# Altium schematic symbol library Connectors.SchLib: 121 symbols
Pins are listed as number, name and electrical type; pins without a type are passive.

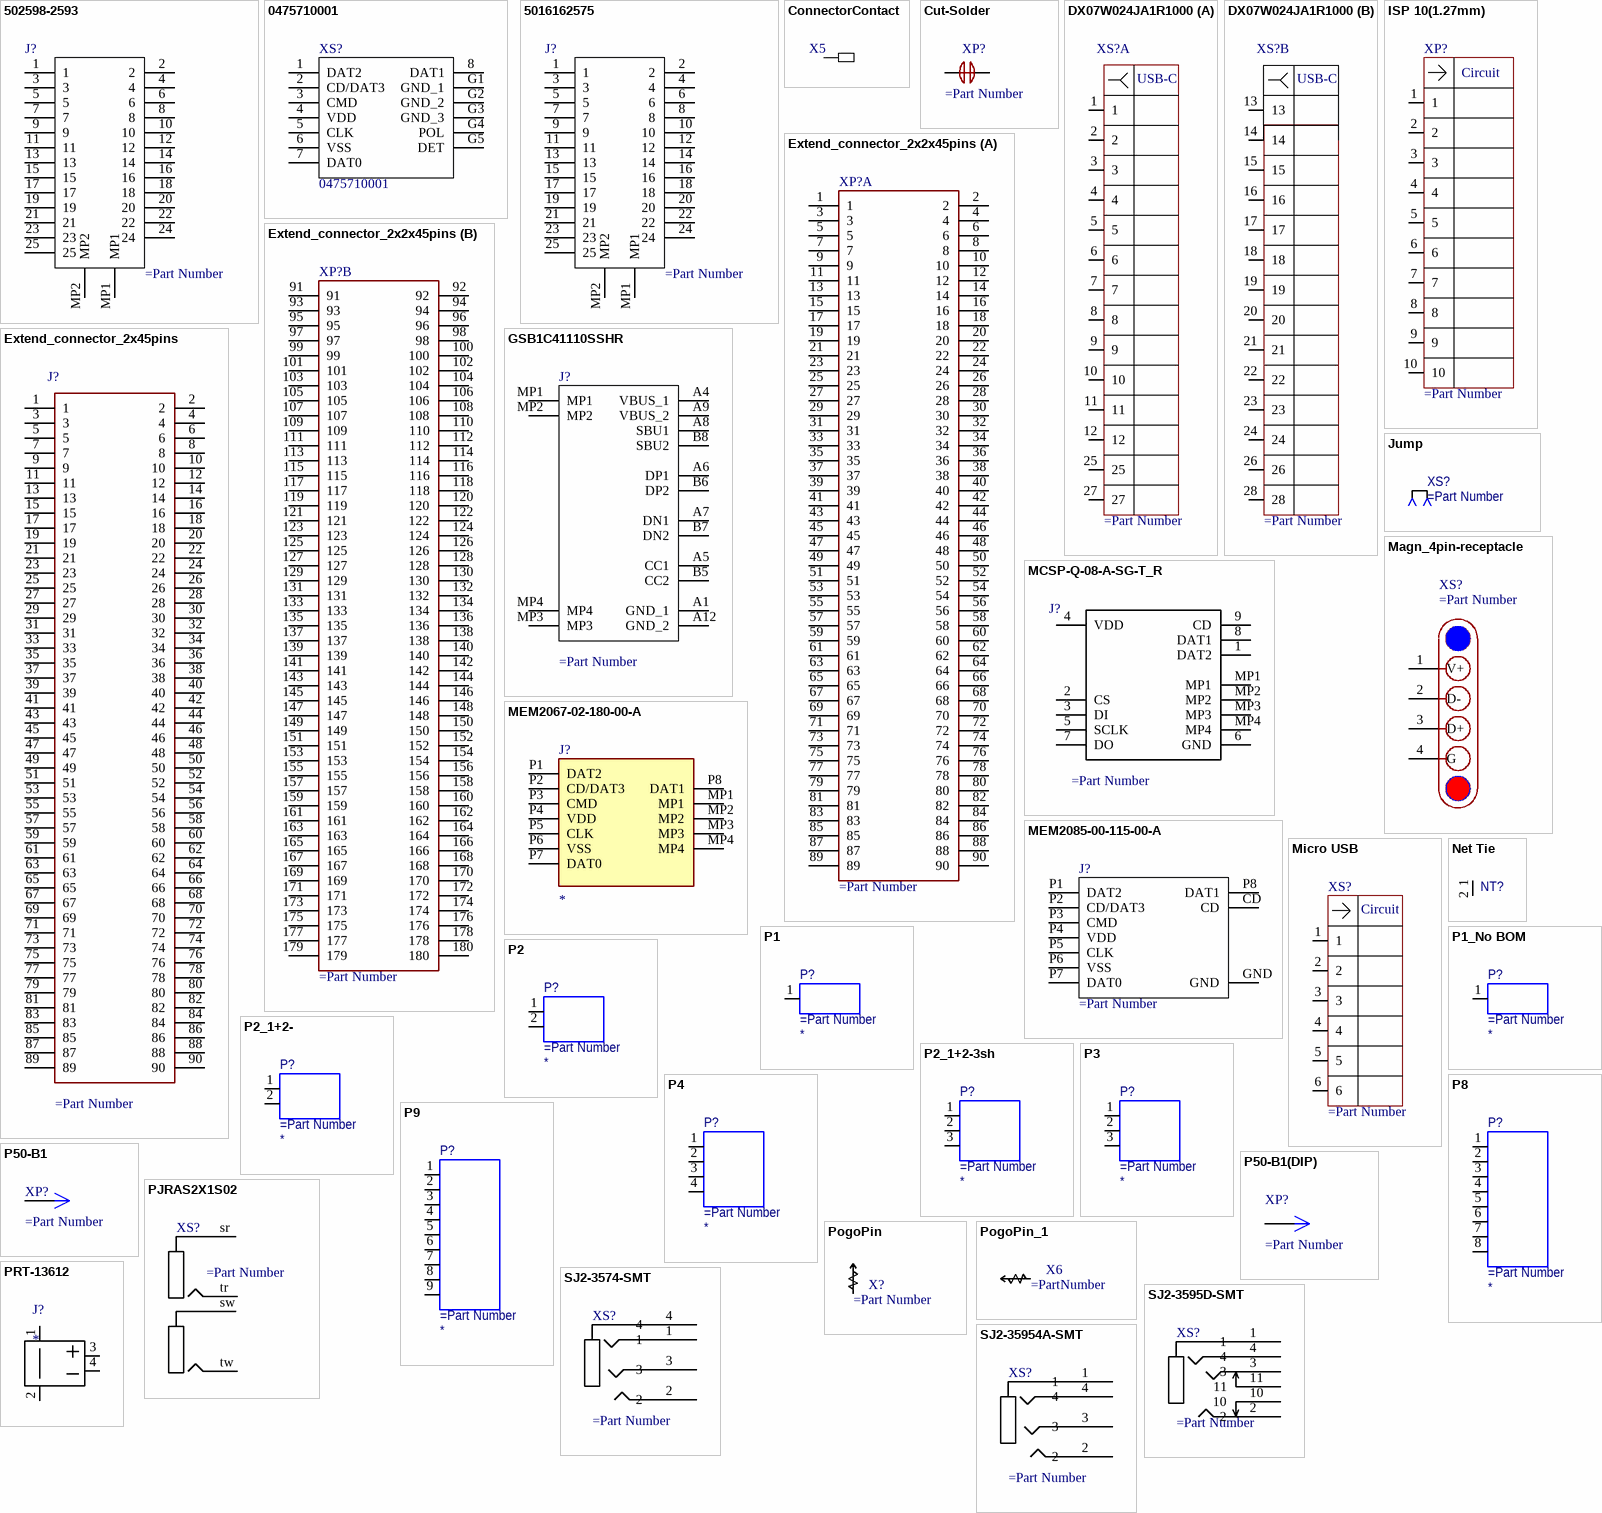
[diagram p0: symbols 502598-2593 to SJ2-35954A-SMT]

## 502598-2593
designator J?
pins: 1, 2, 3, 4, 5, 6, 7, 8, 9, 10, 11, 12, 13, 14, 15, 16, 17, 18, 19, 20, 21, 22, 23, 24, 25, MP1, MP2

## 0475710001
designator XS?
Connector; Manufacturer_Name: Molex; Datasheet Link: https://www.molex.com/pdm_docs/sd/475710001_sd.pdf; Height: 2.3mm; Manufacturer_Part_Number: 0475710001; Mouser Part Number: N/A; Mouser Price/Stock: https://www.mouser.co.uk/ProductDetail/Molex/0475710001?qs=%252BdQmOuGyFcHHu16Mv9OzIA%3D%3D; Arrow Part Number: 0475710001; Arrow Price/Stock: https://www.arrow.com/en/products/0475710001/molex?region=nac
footprint 0475710001
pins: 1 DAT2, 2 CD/DAT3, 3 CMD, 4 VDD, 5 CLK, 6 VSS, 7 DAT0, 8 DAT1, G1 GND_1, G2 GND_2, G3 GND_3, G4 POL, G5 DET

## 5016162575
designator J?
pins: 1, 2, 3, 4, 5, 6, 7, 8, 9, 10, 11, 12, 13, 14, 15, 16, 17, 18, 19, 20, 21, 22, 23, 24, 25, MP1, MP2

## ConnectorContact
designator X5, comment 5024380000  (value not drawn)  (mechanical)
Non-Gendered Contact Tin 22-26 AWG Crimp Stamped; Part Number: 5024380000; HelpURL: https://www.digikey.com/product-detail/en/molex/5024380000/WM3978CT-ND/2421937; Digi-Key Part Number: WM3978CT-ND; Price$: 0.02054; Manufacturer Part Number: 5024380000

## Cut-Solder
designator XP?
pins: 1, 2

## DX07W024JA1R1000
designator XS?
part A pins: 1, 2, 3, 4, 5, 6, 7, 8, 9, 10, 11, 12, 25, 27
part B pins: 13, 14, 15, 16, 17, 18, 19, 20, 21, 22, 23, 24, 26, 28
part A text: USB-C
part B text: USB-C

## Extend_connector_2x2x45pins
designator XP?
part A pins: 1, 2, 3, 4, 5, 6, 7, 8, 9, 10, 11, 12, 13, 14, 15, 16, 17, 18, 19, 20, 21, 22, 23, 24, 25, 26, 27, 28, 29, 30, 31, 32, 33, 34, 35, 36, 37, 38, 39, 40, 41, 42, 43, 44, 45, 46, 47, 48, 49, 50, 51, 52, 53, 54, 55, 56, 57, 58, 59, 60, 61, 62, 63, 64, 65, 66, 67, 68, 69, 70, 71, 72, 73, 74, 75, 76, 77, 78, 79, 80, 81, 82, 83, 84, 85, 86, 87, 88, 89, 90
part B pins: 91, 92, 93, 94, 95, 96, 97, 98, 99, 100, 101, 102, 103, 104, 105, 106, 107, 108, 109, 110, 111, 112, 113, 114, 115, 116, 117, 118, 119, 120, 121, 122, 123, 124, 125, 126, 127, 128, 129, 130, 131, 132, 133, 134, 135, 136, 137, 138, 139, 140, 141, 142, 143, 144, 145, 146, 147, 148, 149, 150, 151, 152, 153, 154, 155, 156, 157, 158, 159, 160, 161, 162, 163, 164, 165, 166, 167, 168, 169, 170, 171, 172, 173, 174, 175, 176, 177, 178, 179, 180

## Extend_connector_2x45pins
designator J?
Connector; Manufacturer_Name: SAMTEC; Manufacturer_Part_Number: SSW-145-01-T-D; Datasheet Link: http://suddendocs.samtec.com/prints/ssw-1xx-xx-xxx-x-xx-xxx-xx-mkt.pdf
footprint SAMTEC_SSW-145-01-T-D
pins: 1, 2, 3, 4, 5, 6, 7, 8, 9, 10, 11, 12, 13, 14, 15, 16, 17, 18, 19, 20, 21, 22, 23, 24, 25, 26, 27, 28, 29, 30, 31, 32, 33, 34, 35, 36, 37, 38, 39, 40, 41, 42, 43, 44, 45, 46, 47, 48, 49, 50, 51, 52, 53, 54, 55, 56, 57, 58, 59, 60, 61, 62, 63, 64, 65, 66, 67, 68, 69, 70, 71, 72, 73, 74, 75, 76, 77, 78, 79, 80, 81, 82, 83, 84, 85, 86, 87, 88, 89, 90

## GSB1C41110SSHR
designator J?
Connector; Manufacturer_Name: Amphenol Communications Solutions; Manufacturer_Part_Number: GSB1C41110SSHR; Datasheet Link: https://cdn.amphenol-cs.com/media/wysiwyg/files/drawing/gsb1c41x10sshr-ax1.pdf; Height: 3.41mm
footprint GSB1C41110SSHR
pins: A1 GND_1, A4 VBUS_1, A5 CC1, A6 DP1, A7 DN1, A8 SBU1, A9 VBUS_2, A12 GND_2, B5 CC2, B6 DP2, B7 DN2, B8 SBU2, MP1, MP2, MP3, MP4

## ISP 10(1.27mm)
designator XP?
pins: 1, 2, 3, 4, 5, 6, 7, 8, 9, 10
text: Circuit

## Jump
designator XS?  (mechanical)

## Magn_4pin-receptacle
designator XS?
pins: 1 V+, 2 D-, 3 D+, 4 G

## MCSP-Q-08-A-SG-T_R
designator J?
Connector; Manufacturer_Name: Adam Tech; Manufacturer_Part_Number: MCSP-Q-08-A-SG-T/R; Datasheet Link: https://www.tme.eu/Document/5f9a5d03c5c83aa9fa1dbd4994c7ccab/MCSP-Q-08-A-SG-DTE.pdf; Height: 2mm
footprint MCSPQ08ASGTR
pins: 1 DAT2, 2 CS, 3 DI, 4 VDD, 5 SCLK, 6 GND, 7 DO, 8 DAT1, 9 CD, MP1, MP2, MP3, MP4

## MEM2067-02-180-00-A
designator J?
Connector; Manufacturer_Name: GCT (GLOBAL CONNECTOR TECHNOLOGY); Manufacturer_Part_Number: MEM2067-02-180-00-A; Datasheet Link: https://gct.co/files/drawings/mem2067.pdf; Height: 1.95mm; Mouser Part Number: 640-MEM20670218000A; Mouser Price/Stock: https://www.mouser.co.uk/ProductDetail/GCT/MEM2067-02-180-00-A?qs=KUoIvG%2F9IlYTw%2Fcc1GlNJA%3D%3D
footprint MEM20670218000A
pins: MP1, MP2, MP3, MP4, P1 DAT2, P2 CD/DAT3, P3 CMD, P4 VDD, P5 CLK, P6 VSS, P7 DAT0, P8 DAT1

## MEM2085-00-115-00-A
designator J?
Connector; Manufacturer_Name: GCT (GLOBAL CONNECTOR TECHNOLOGY); Manufacturer_Part_Number: MEM2085-00-115-00-A; Datasheet Link: https://gct.co/files/drawings/mem2085.pdf; Height: 1.35mm; Mouser Part Number: 640-MEM20850011500A; Mouser Price/Stock: https://www.mouser.co.uk/ProductDetail/GCT/MEM2085-00-115-00-A?qs=rQFj71Wb1eWNkFUhuuvVIA%3D%3D
footprint MEM20850011500A
pins: CD, GND, P1 DAT2, P2 CD/DAT3, P3 CMD, P4 VDD, P5 CLK, P6 VSS, P7 DAT0, P8 DAT1

## Micro USB
designator XS?
pins: 1, 2, 3, 4, 5, 6
text: Circuit

## Net Tie
designator NT?  (value not drawn)  (net tie, no BOM)
pins: 1, 2

## P1
designator P?
Silk: *
pins: 1

## P1_No BOM
designator P?  (no BOM)
Silk: *
pins: 1

## P2
designator P?
Silk: *
pins: 1, 2

## P2_1+2-
designator P?
Silk: *
pins: 1, 2

## P2_1+2-3sh
designator P?
Silk: *
pins: 1, 2, 3

## P3
designator P?
Silk: *
pins: 1, 2, 3

## P4
designator P?
Silk: *
pins: 1, 2, 3, 4

## P8
designator P?
Silk: *
pins: 1, 2, 3, 4, 5, 6, 7, 8

## P9
designator P?
Silk: *
pins: 1, 2, 3, 4, 5, 6, 7, 8, 9

## P50-B1
designator XP?
pins: 1

## P50-B1(DIP)
designator XP?
pins: 1

## PJRAS2X1S02
designator XS?
pins: sr, sw, tr, tw

## PogoPin
designator X?
pins: 1

## PogoPin_1
designator X6
CONTACT SPRING LOADED SMD GOLD; Part Number: 0919-0-15-20-89-14-11-0; HelpURL: https://www.digikey.com/en/products/detail/mill-max-manufacturing-corp/0919-0-15-20-89-14-11-0/6193088; Price$: 0.45040; Manufacturer Part Number: 0919-0-15-20-89-14-11-0; Digi-Key Part Number: ED10766-ND
footprint 0919-0-15-20-89-14-11-0
pins: 1

## PRT-13612
designator J?
Connector; Manufacturer_Name: SparkFun; Manufacturer_Part_Number: PRT-13612; Datasheet Link: https://cdn.sparkfun.com/datasheets/Prototyping/PCC-SMP-K-datasheet.pdf; Height: 6.3mm; Arrow Part Number: PRT-13612; Arrow Price/Stock: https://www.arrow.com/en/products/prt-13612/sparkfun-electronics; Mouser Part Number: 474-PRT-13612; Mouser Price/Stock: https://www.mouser.co.uk/ProductDetail/SparkFun/PRT-13612?qs=WyAARYrbSnbvS1kDzRVYBg%3D%3D
footprint PRT13612
pins: 1, 2, 3 +, 4 -

## SJ2-3574-SMT
designator XS?
pins: 1, 2, 3, 4

## SJ2-3595D-SMT
designator XS?
pins: 1, 2, 3, 4, 10, 11

## SJ2-35954A-SMT
designator XS?
pins: 1, 2, 3, 4

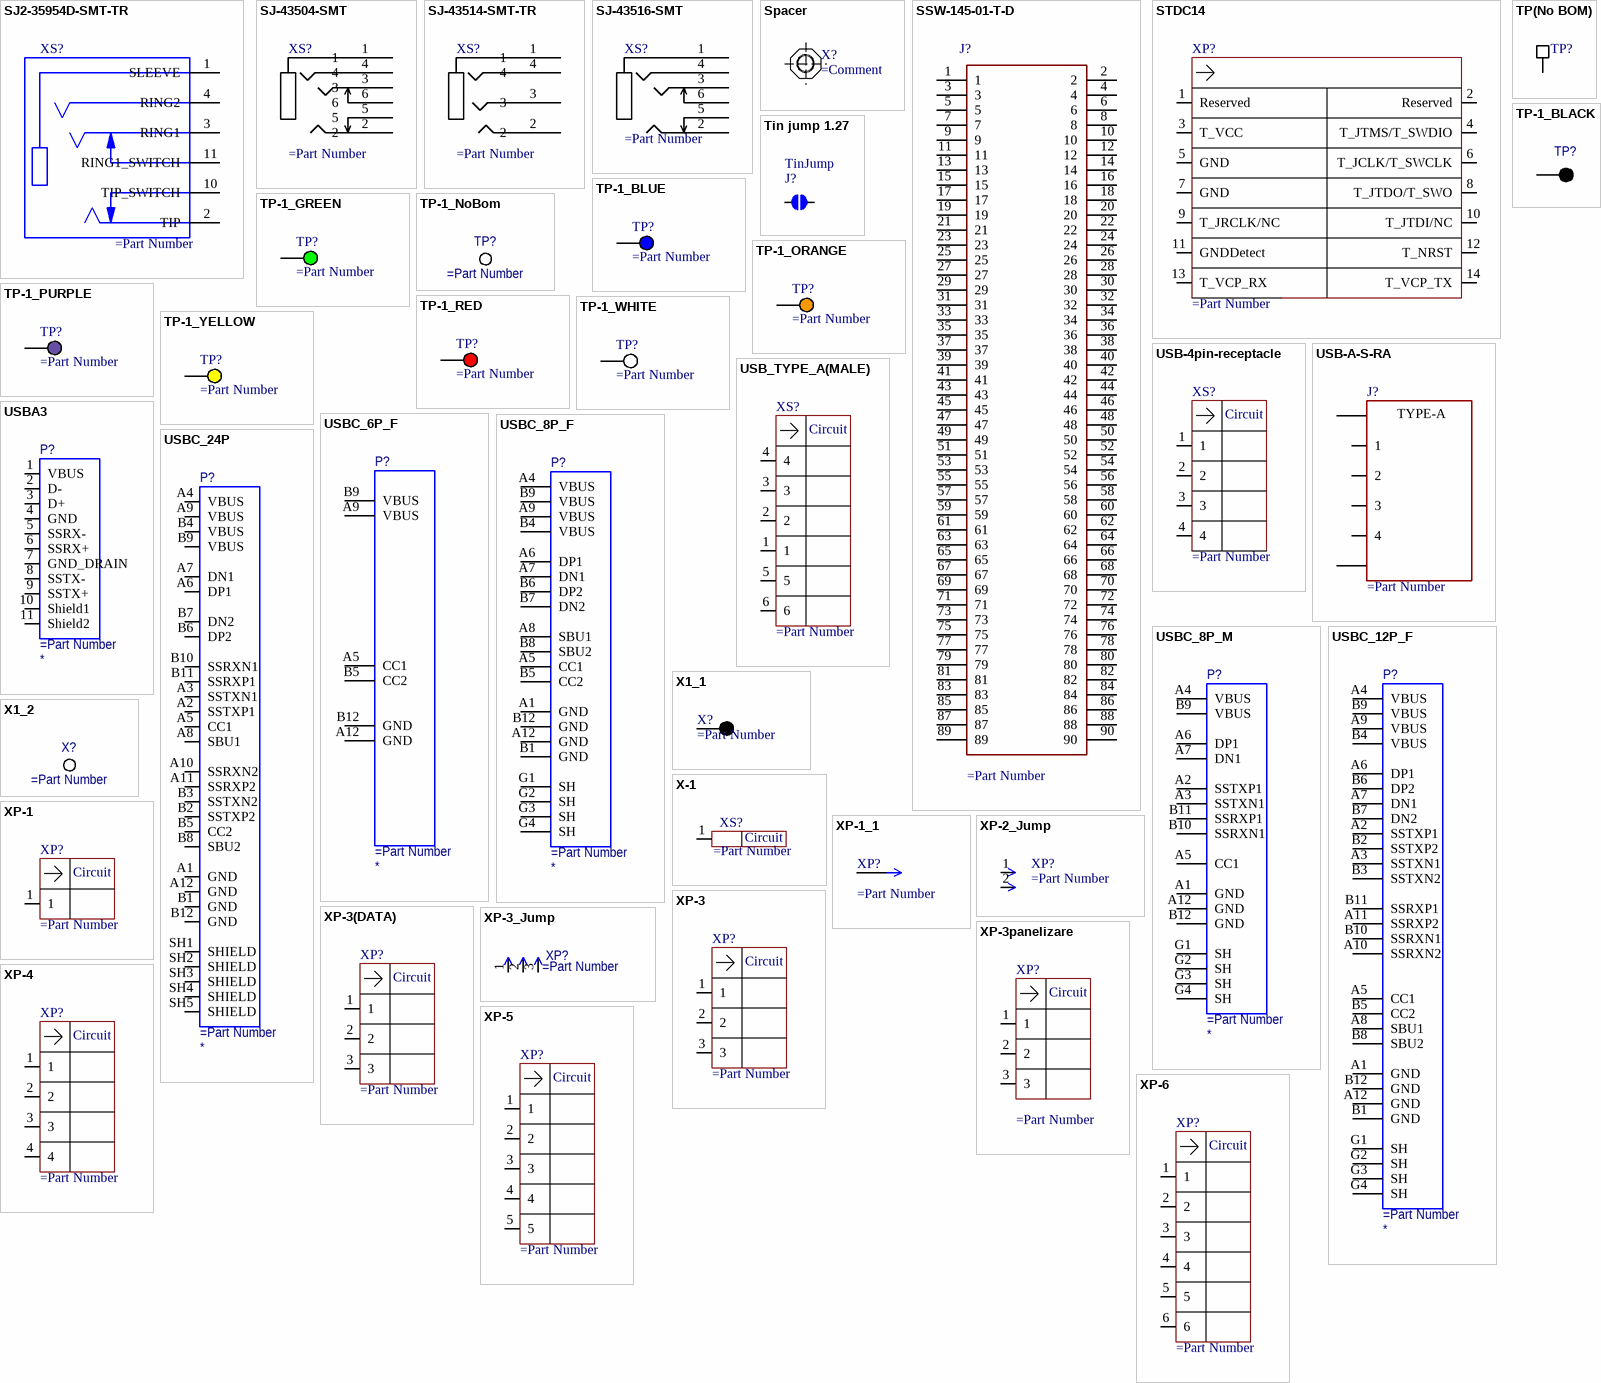
[diagram p1: symbols SJ2-35954D-SMT-TR to XP-6]

## SJ2-35954D-SMT-TR
designator XS?
3.5 mm, Stereo, Right Angle, Surface Mount _SMT_, Audio Jack Connector; MF: CUI Devices; MP: SJ2-35954D-SMT-TR; CUI_purchase_URL: https://www.cuidevices.com/product/interconnect/connectors/audio-connectors/jacks/sj2-3595x-smt-series?utm_source=snapeda.com&utm_medium=referral&utm_campaign=snapedaBOM; Value: *; Price: None; Package: None; Availability: Unavailable; SnapEDA_Link: https://www.snapeda.com/parts/SJ2-35954D-SMT-TR/CUI%20Devices/view-part/910428/?ref=snap
footprint CUI_SJ2-35954D-SMT-TR
pins: 1 SLEEVE, 2 TIP, 3 RING1, 4 RING2, 10 TIP_SWITCH, 11 RING1_SWITCH

## SJ-43504-SMT
designator XS?
pins: 1, 2, 3, 4, 5, 6

## SJ-43514-SMT-TR
designator XS?
pins: 1, 2, 3, 4

## SJ-43516-SMT
designator XS?
pins: 1, 2, 3, 4, 5, 6

## Spacer
designator X?

## SSW-145-01-T-D
designator J?
Connector; Manufacturer_Name: SAMTEC; Manufacturer_Part_Number: SSW-145-01-T-D; Datasheet Link: http://suddendocs.samtec.com/prints/ssw-1xx-xx-xxx-x-xx-xxx-xx-mkt.pdf
footprint SAMTEC_SSW-145-01-T-D
pins: 1, 2, 3, 4, 5, 6, 7, 8, 9, 10, 11, 12, 13, 14, 15, 16, 17, 18, 19, 20, 21, 22, 23, 24, 25, 26, 27, 28, 29, 30, 31, 32, 33, 34, 35, 36, 37, 38, 39, 40, 41, 42, 43, 44, 45, 46, 47, 48, 49, 50, 51, 52, 53, 54, 55, 56, 57, 58, 59, 60, 61, 62, 63, 64, 65, 66, 67, 68, 69, 70, 71, 72, 73, 74, 75, 76, 77, 78, 79, 80, 81, 82, 83, 84, 85, 86, 87, 88, 89, 90

## STDC14
designator XP?
pins: 1 Reserved, 2 Reserved, 3 T_VCC, 4 T_JTMS/T_SWDIO, 5 GND, 6 T_JCLK/T_SWCLK, 7 GND, 8 T_JTDO/T_SWO, 9 T_JRCLK/NC, 10 T_JTDI/NC, 11 GNDDetect, 12 T_NRST, 13 T_VCP_RX, 14 T_VCP_TX

## Tin jump 1.27
designator J?, comment TinJump
pins: 1, 2

## TP(No BOM)
designator TP?  (value not drawn)  (no BOM)
pins: 1

## TP-1_BLACK
designator TP?
pins: 1

## TP-1_BLUE
designator TP?
pins: 1

## TP-1_GREEN
designator TP?
pins: 1

## TP-1_NoBom
designator TP?
pins: 1

## TP-1_ORANGE
designator TP?
pins: 1

## TP-1_PURPLE
designator TP?
pins: 1

## TP-1_RED
designator TP?
pins: 1

## TP-1_WHITE
designator TP?
pins: 1

## TP-1_YELLOW
designator TP?
pins: 1

## USB-4pin-receptacle
designator XS?
pins: 1, 2, 3, 4
text: Circuit

## USB-A-S-RA
designator J?
pins: 1, 2, 3, 4, 5, 6
text: TYPE-A

## USB_TYPE_A(MALE)
designator XS?
pins: 1, 2, 3, 4, 5, 6
text: Circuit

## USBA3
designator P?
Silk: *
pins: 1 VBUS, 2 D-, 3 D+, 4 GND, 5 SSRX-, 6 SSRX+, 7 GND_DRAIN, 8 SSTX-, 9 SSTX+, 10 Shield1, 11 Shield2

## USBC_6P_F
designator P?
Silk: *
pins: A5 CC1, A9 VBUS, A12 GND, B5 CC2, B9 VBUS, B12 GND

## USBC_8P_F
designator P?
Silk: *
pins: A1 GND, A4 VBUS, A5 CC1, A6 DP1, A7 DN1, A8 SBU1, A9 VBUS, A12 GND, B1 GND, B4 VBUS, B5 CC2, B6 DP2, B7 DN2, B8 SBU2, B9 VBUS, B12 GND, G1 SH, G2 SH, G3 SH, G4 SH

## USBC_8P_M
designator P?
Silk: *
pins: A1 GND, A2 SSTXP1, A3 SSTXN1, A4 VBUS, A5 CC1, A6 DP1, A7 DN1, A12 GND, B9 VBUS, B10 SSRXN1, B11 SSRXP1, B12 GND, G1 SH, G2 SH, G3 SH, G4 SH

## USBC_12P_F
designator P?
Silk: *
pins: A1 GND, A2 SSTXP1, A3 SSTXN1, A4 VBUS, A5 CC1, A6 DP1, A7 DN1, A8 SBU1, A9 VBUS, A10 SSRXN2, A11 SSRXP2, A12 GND, B1 GND, B2 SSTXP2, B3 SSTXN2, B4 VBUS, B5 CC2, B6 DP2, B7 DN2, B8 SBU2, B9 VBUS, B10 SSRXN1, B11 SSRXP1, B12 GND, G1 SH, G2 SH, G3 SH, G4 SH

## USBC_24P
designator P?
Silk: *
pins: A1 GND, A2 SSTXP1, A3 SSTXN1, A4 VBUS, A5 CC1, A6 DP1, A7 DN1, A8 SBU1, A9 VBUS, A10 SSRXN2, A11 SSRXP2, A12 GND, B1 GND, B2 SSTXP2, B3 SSTXN2, B4 VBUS, B5 CC2, B6 DP2, B7 DN2, B8 SBU2, B9 VBUS, B10 SSRXN1, B11 SSRXP1, B12 GND, SH1 SHIELD, SH2 SHIELD, SH3 SHIELD, SH4 SHIELD, SH5 SHIELD

## X1_1
designator X?
pins: 1

## X1_2
designator X?
pins: 1

## X-1
designator XS?
pins: 1
text: Circuit

## XP-1
designator XP?
pins: 1
text: Circuit

## XP-1_1
designator XP?
Вилка на плату
pins: 1

## XP-2_Jump
designator XP?
pins: 1, 2

## XP-3
designator XP?
footprint 440055-3
pins: 1, 2, 3
text: Circuit

## XP-3(DATA)
designator XP?
footprint B03B-XASK-1 (CONN HEADER XA 3POS 2.5MM TIN)
pins: 1, 2, 3
text: Circuit

## XP-3_Jump
designator XP?
pins: 1, 2, 3

## XP-3panelizare
designator XP?
pins: 1, 2, 3
text: Circuit

## XP-4
designator XP?
pins: 1, 2, 3, 4
text: Circuit

## XP-5
designator XP?
pins: 1, 2, 3, 4, 5
text: Circuit

## XP-6
designator XP?
pins: 1, 2, 3, 4, 5, 6
text: Circuit

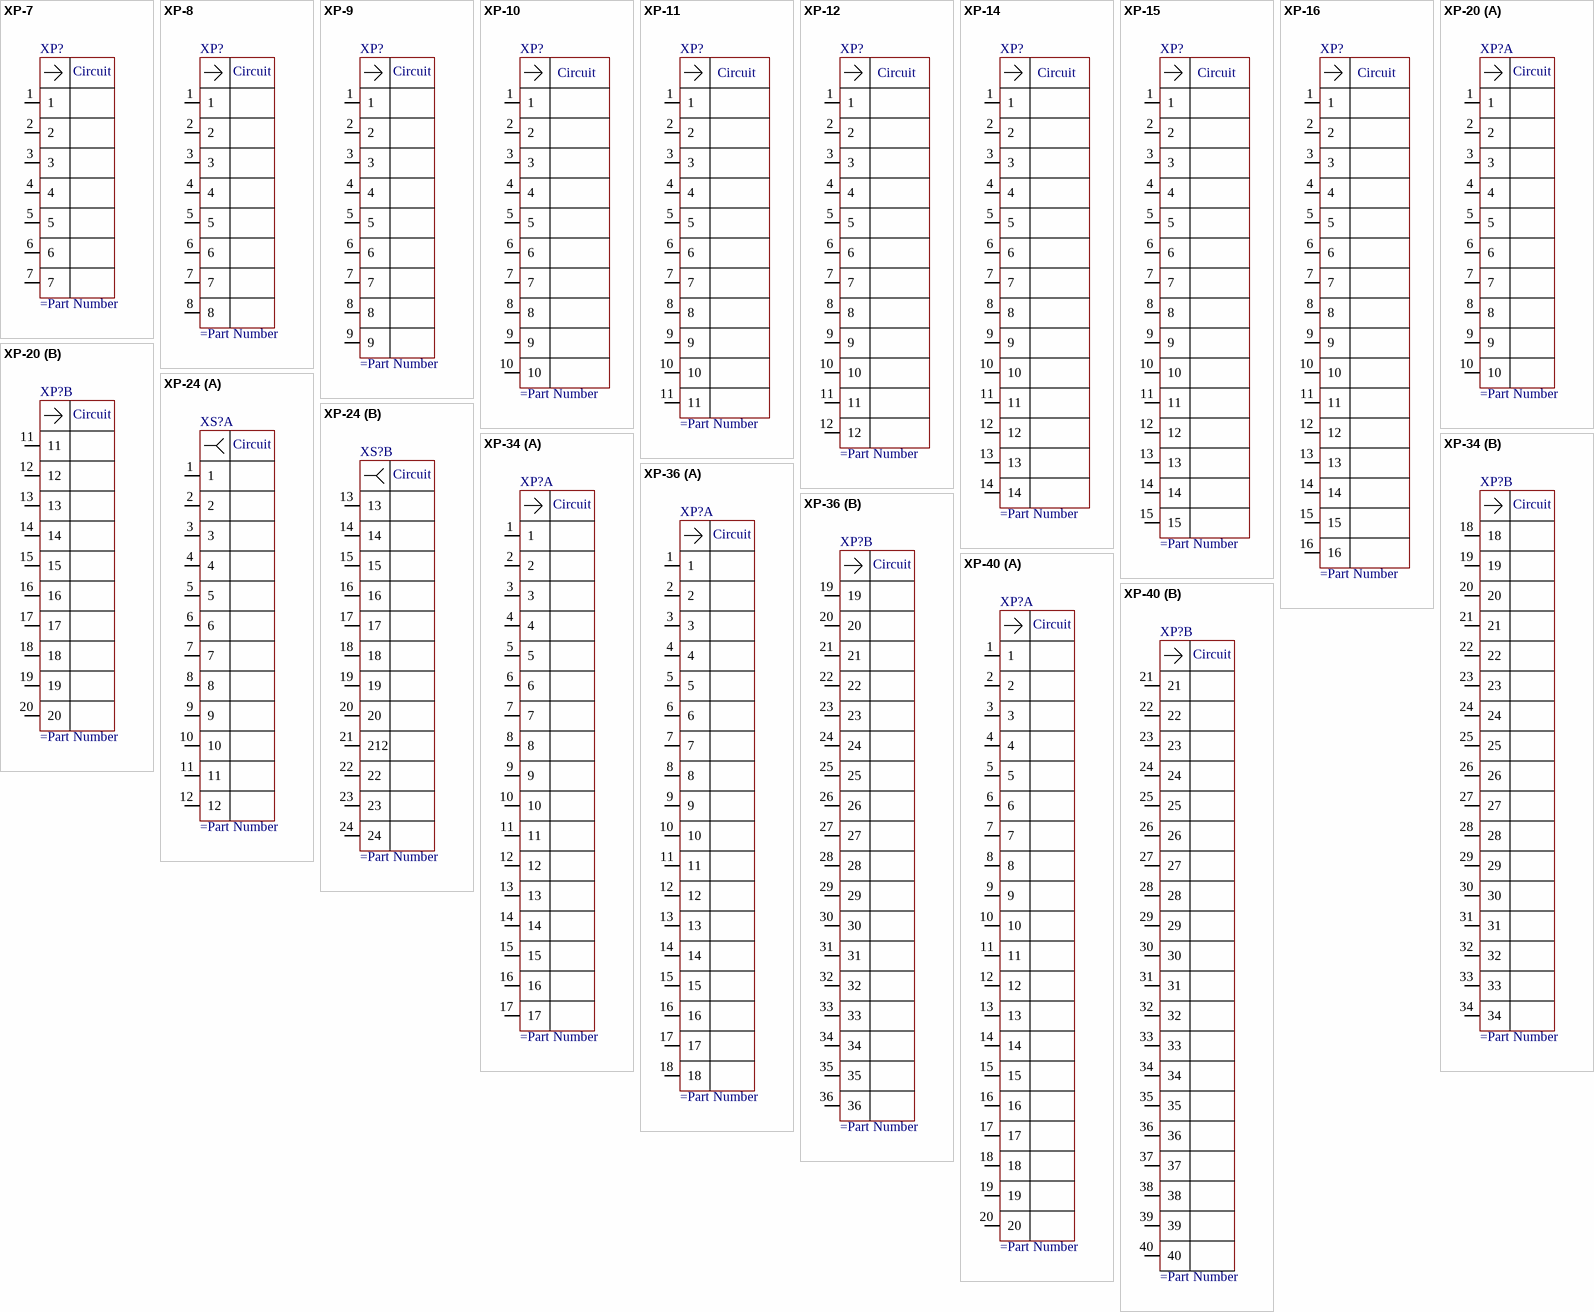
[diagram p2: symbols XP-7 to XP-40]

## XP-7
designator XP?
pins: 1, 2, 3, 4, 5, 6, 7
text: Circuit

## XP-8
designator XP?
pins: 1, 2, 3, 4, 5, 6, 7, 8
text: Circuit

## XP-9
designator XP?
footprint PLS-9-3D (Connector; Header; 9 Position)
pins: 1, 2, 3, 4, 5, 6, 7, 8, 9
text: Circuit

## XP-10
designator XP?
pins: 1, 2, 3, 4, 5, 6, 7, 8, 9, 10
text: Circuit

## XP-11
designator XP?
pins: 1, 2, 3, 4, 5, 6, 7, 8, 9, 10, 11
text: Circuit

## XP-12
designator XP?
pins: 1, 2, 3, 4, 5, 6, 7, 8, 9, 10, 11, 12
text: Circuit

## XP-14
designator XP?
pins: 1, 2, 3, 4, 5, 6, 7, 8, 9, 10, 11, 12, 13, 14
text: Circuit

## XP-15
designator XP?
pins: 1, 2, 3, 4, 5, 6, 7, 8, 9, 10, 11, 12, 13, 14, 15
text: Circuit

## XP-16
designator XP?
pins: 1, 2, 3, 4, 5, 6, 7, 8, 9, 10, 11, 12, 13, 14, 15, 16
text: Circuit

## XP-20
designator XP?
part A pins: 1, 2, 3, 4, 5, 6, 7, 8, 9, 10
part B pins: 11, 12, 13, 14, 15, 16, 17, 18, 19, 20
part A text: Circuit
part B text: Circuit

## XP-24
designator XS?
part A pins: 1, 2, 3, 4, 5, 6, 7, 8, 9, 10, 11, 12
part B pins: 13, 14, 15, 16, 17, 18, 19, 20, 21 212, 22, 23, 24
part A text: Circuit
part B text: Circuit

## XP-34
designator XP?
part A pins: 1, 2, 3, 4, 5, 6, 7, 8, 9, 10, 11, 12, 13, 14, 15, 16, 17
part B pins: 18, 19, 20, 21, 22, 23, 24, 25, 26, 27, 28, 29, 30, 31, 32, 33, 34
part A text: Circuit
part B text: Circuit

## XP-36
designator XP?
part A pins: 1, 2, 3, 4, 5, 6, 7, 8, 9, 10, 11, 12, 13, 14, 15, 16, 17, 18
part B pins: 19, 20, 21, 22, 23, 24, 25, 26, 27, 28, 29, 30, 31, 32, 33, 34, 35, 36
part A text: Circuit
part B text: Circuit

## XP-40
designator XP?
part A pins: 1, 2, 3, 4, 5, 6, 7, 8, 9, 10, 11, 12, 13, 14, 15, 16, 17, 18, 19, 20
part B pins: 21, 22, 23, 24, 25, 26, 27, 28, 29, 30, 31, 32, 33, 34, 35, 36, 37, 38, 39, 40
part A text: Circuit
part B text: Circuit

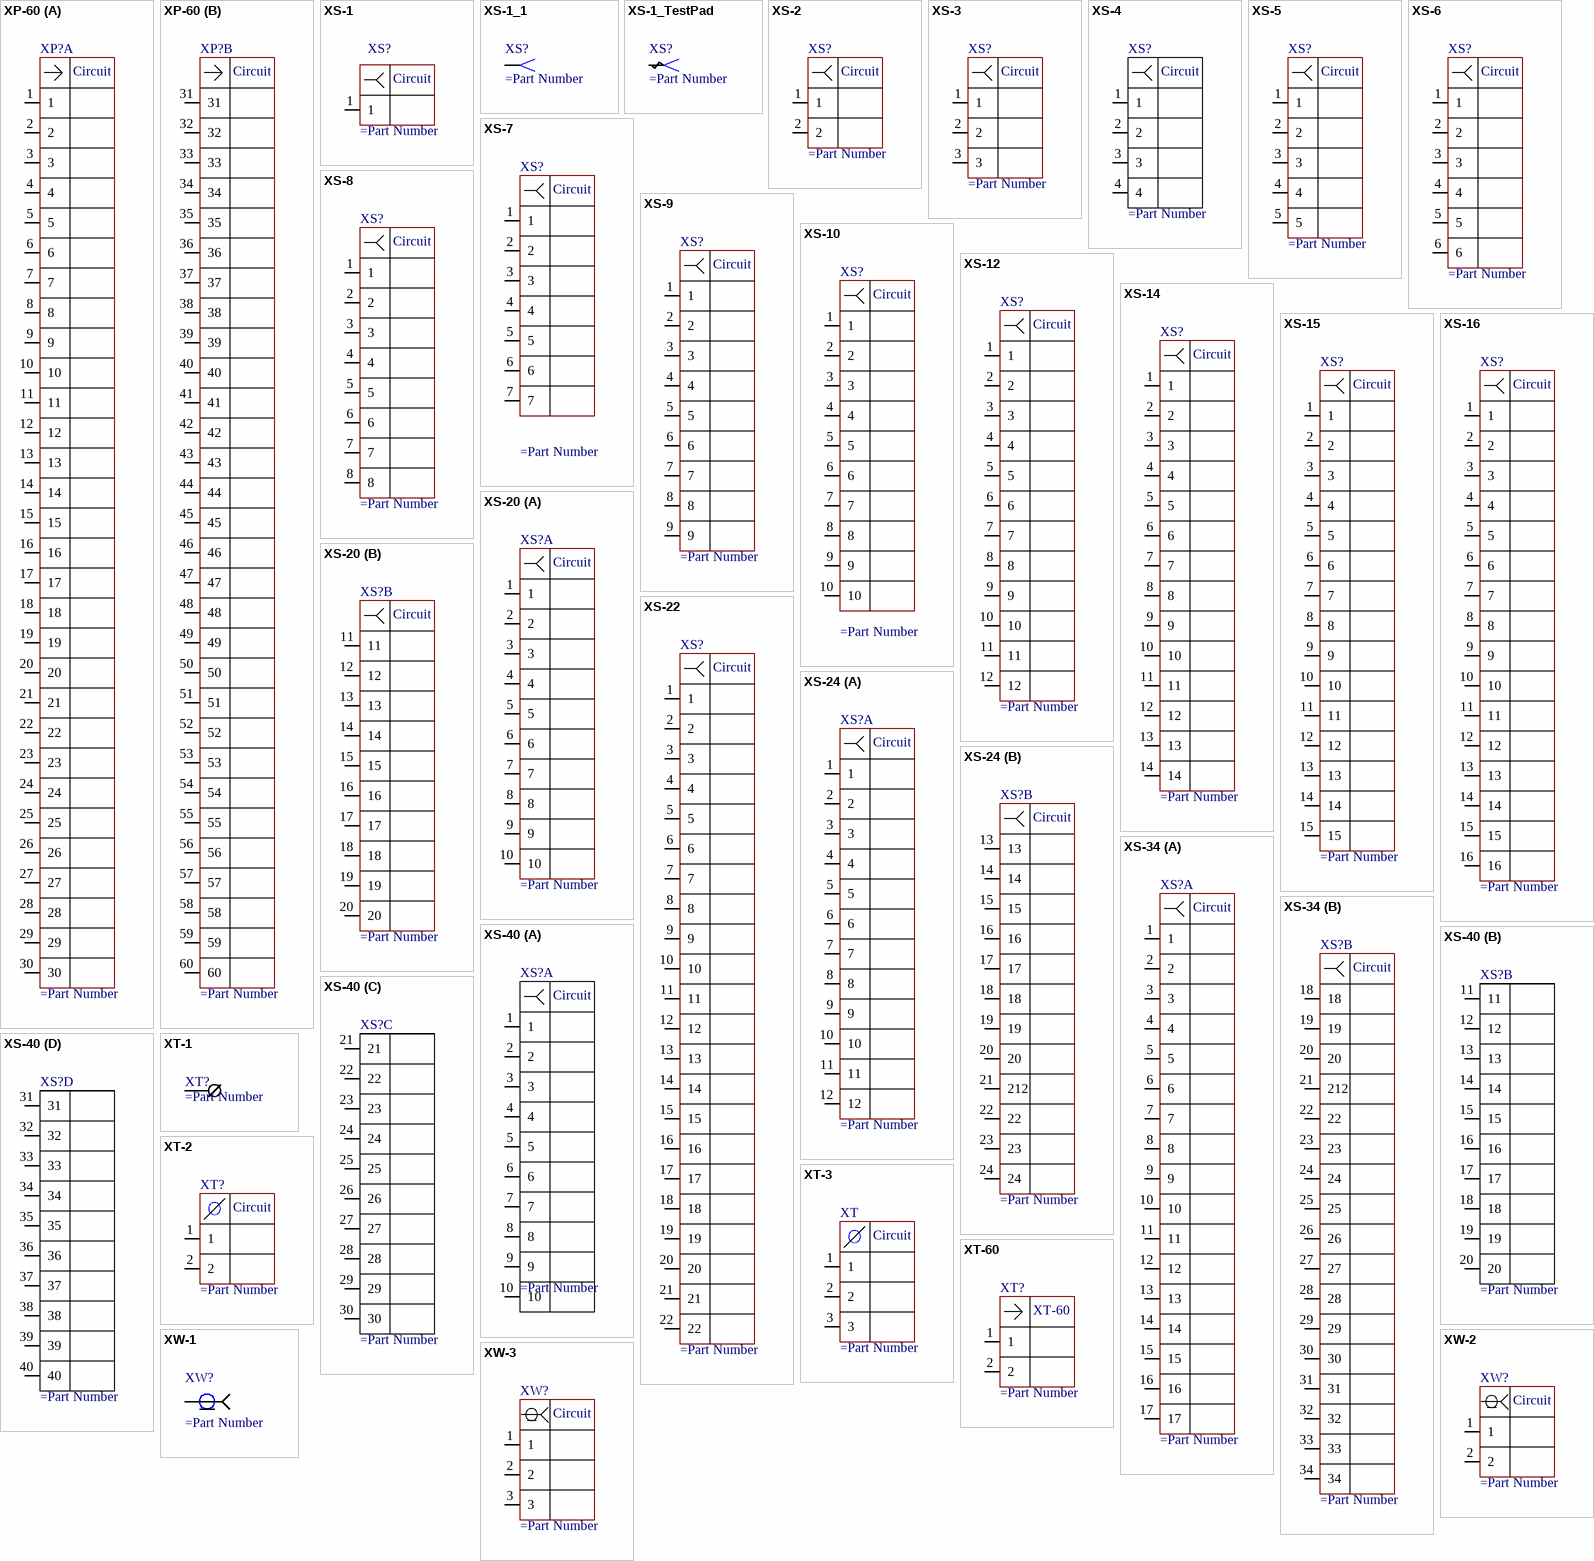
[diagram p3: symbols XP-60 to XW-3]

## XP-60
designator XP?
part A pins: 1, 2, 3, 4, 5, 6, 7, 8, 9, 10, 11, 12, 13, 14, 15, 16, 17, 18, 19, 20, 21, 22, 23, 24, 25, 26, 27, 28, 29, 30
part B pins: 31, 32, 33, 34, 35, 36, 37, 38, 39, 40, 41, 42, 43, 44, 45, 46, 47, 48, 49, 50, 51, 52, 53, 54, 55, 56, 57, 58, 59, 60
part A text: Circuit
part B text: Circuit

## XS-1
designator XS?
pins: 1
text: Circuit

## XS-1_1
designator XS?
Гнездо на плату
pins: 1

## XS-1_TestPad
designator XS?
Гнездо на плату
pins: 1

## XS-2
designator XS?
pins: 1, 2
text: Circuit

## XS-3
designator XS?
pins: 1, 2, 3
text: Circuit

## XS-4
designator XS?
pins: 1, 2, 3, 4
text: Circuit

## XS-5
designator XS?
pins: 1, 2, 3, 4, 5
text: Circuit

## XS-6
designator XS?
pins: 1, 2, 3, 4, 5, 6
text: Circuit

## XS-7
designator XS?
pins: 1, 2, 3, 4, 5, 6, 7
text: Circuit

## XS-8
designator XS?
pins: 1, 2, 3, 4, 5, 6, 7, 8
text: Circuit

## XS-9
designator XS?
pins: 1, 2, 3, 4, 5, 6, 7, 8, 9
text: Circuit

## XS-10
designator XS?
pins: 1, 2, 3, 4, 5, 6, 7, 8, 9, 10
text: Circuit

## XS-12
designator XS?
pins: 1, 2, 3, 4, 5, 6, 7, 8, 9, 10, 11, 12
text: Circuit

## XS-14
designator XS?
pins: 1, 2, 3, 4, 5, 6, 7, 8, 9, 10, 11, 12, 13, 14
text: Circuit

## XS-15
designator XS?
pins: 1, 2, 3, 4, 5, 6, 7, 8, 9, 10, 11, 12, 13, 14, 15
text: Circuit

## XS-16
designator XS?
pins: 1, 2, 3, 4, 5, 6, 7, 8, 9, 10, 11, 12, 13, 14, 15, 16
text: Circuit

## XS-20
designator XS?
part A pins: 1, 2, 3, 4, 5, 6, 7, 8, 9, 10
part B pins: 11, 12, 13, 14, 15, 16, 17, 18, 19, 20
part A text: Circuit
part B text: Circuit

## XS-22
designator XS?
pins: 1, 2, 3, 4, 5, 6, 7, 8, 9, 10, 11, 12, 13, 14, 15, 16, 17, 18, 19, 20, 21, 22
text: Circuit

## XS-24
designator XS?
part A pins: 1, 2, 3, 4, 5, 6, 7, 8, 9, 10, 11, 12
part B pins: 13, 14, 15, 16, 17, 18, 19, 20, 21 212, 22, 23, 24
part A text: Circuit
part B text: Circuit

## XS-34
designator XS?
part A pins: 1, 2, 3, 4, 5, 6, 7, 8, 9, 10, 11, 12, 13, 14, 15, 16, 17
part B pins: 18, 19, 20, 21 212, 22, 23, 24, 25, 26, 27, 28, 29, 30, 31, 32, 33, 34
part A text: Circuit
part B text: Circuit

## XS-40
designator XS?
part A pins: 1, 2, 3, 4, 5, 6, 7, 8, 9, 10
part B pins: 11, 12, 13, 14, 15, 16, 17, 18, 19, 20
part C pins: 21, 22, 23, 24, 25, 26, 27, 28, 29, 30
part D pins: 31, 32, 33, 34, 35, 36, 37, 38, 39, 40
part A text: Circuit

## XT-1
designator XT?
pins: 1

## XT-2
designator XT?
pins: 1, 2
text: Circuit

## XT-3
designator XT
pins: 1, 2, 3
text: Circuit

## XT-60
designator XT?
pins: 1, 2

## XW-1
designator XW?
pins: 1

## XW-2
designator XW?
pins: 1, 2
text: Circuit

## XW-3
designator XW?
pins: 1, 2, 3
text: Circuit

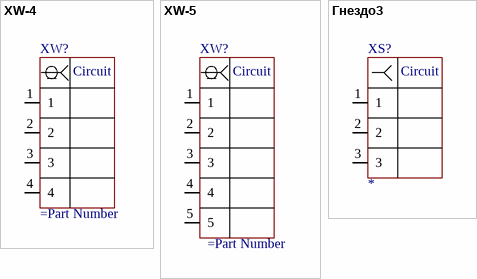
[diagram p4: symbols XW-4 to Гнездо3]

## XW-4
designator XW?
pins: 1, 2, 3, 4
text: Circuit

## XW-5
designator XW?
pins: 1, 2, 3, 4, 5
text: Circuit

## Гнездо3
designator XS?
pins: 1, 2, 3
text: Circuit